# Altium schematic symbol library Schematic_Lib.SchLib: 31 symbols (part 1 of 2)
Pins are listed as number, name and electrical type; pins without a type are passive.

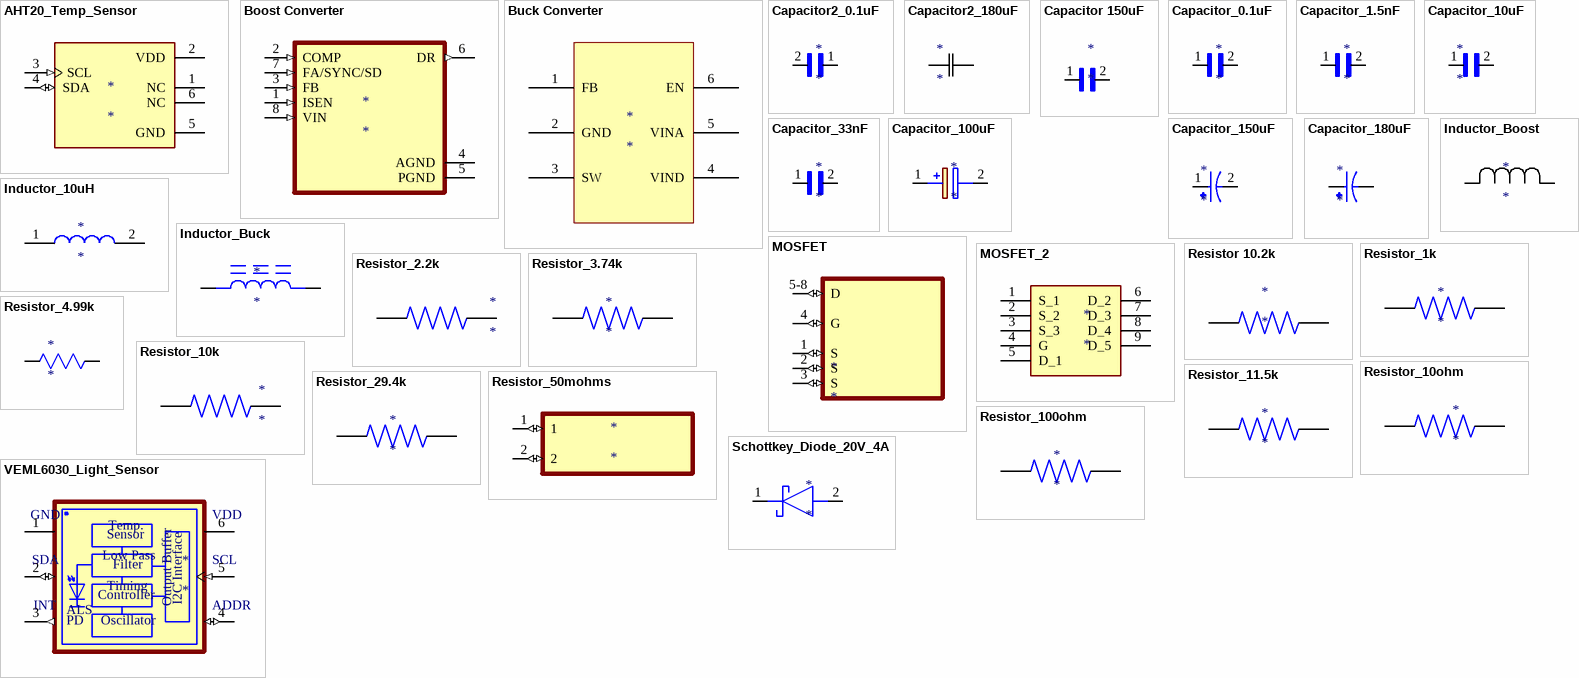
[diagram p0: symbols AHT20_Temp_Sensor to VEML6030_Light_Sensor]

## AHT20_Temp_Sensor
designator *
DHT20 - AHT20 Pin Module - I2C Temperature and Humidity Sensor; Manufacturer: Adafruit Industries; Manufacturer Part Number: 5183; Supplier 1: Digi-Key; Supplier Part Number 1: 1528-5183-ND; RoHS: No; Category: Uncategorized; Stock 1: 48; Pricing 1: 1=4.50000 (USD)
footprint DHT20_Tempsensor
pins: 1 NC, 2 VDD (power), 3 SCL (in), 4 SDA (io), 5 GND (power), 6 NC

## Boost Converter
designator *
2.97V to 40V Wide Vin Low-Side N-Channel Controller for Switching Regulators 8-VSSOP -40 to 125; Manufacturer: Adafruit Industries; Manufacturer Part Number: 385; Response Time: 2s; Accuracy: 2%; Sensor Type: Temperature; Output Type: Digital; Number of Outputs: 1; Output Voltage: 4.5V; Max Output Current: 1.5A; Min Input Voltage: 3V; Max Input Voltage: 5.5V; Efficiency: 93%; Switching Frequency: 1.6MHz; Min Output Voltage: 600mV; Synchronous Rectifier: No; Quiescent Current: 3.3mA; Output Configuration: Positive; Frequency: 400kHz; Max Duty Cycle: 100%; Topology: Boost,Flyback,SEPIC; Max Frequency: 1MHz; Supplier 1: Digi-Key; Supplier Part Number 1: 1528-1504-ND; RoHS: Yes; Category: Sensors; Pricing 1: 1=9.95000 (USD); Mount: Chassis Mount; Min Operating Temperature: -40°C; Max Operating Temperature: 125°C; Series: -; ComponentLink1URL: https://cdn-shop.adafruit.com/datasheets/DHT22.pdf?src-supplier=Digi-Key; ComponentLink1Description: https://cdn-shop.adafruit.com/datasheets/DHT22.pdf?src-supplier=Digi-Key; Supplier 2: Digi-Key; Supplier Part Number 2: 296-46437-1-ND; Stock 2: 275; Pricing 2: 1=1.57000, 10=1.40400, 25=1.33280, 100=1.09470, 250=1.02328, 500=0.90428 (USD); Number of Pins: 6; Output Current: 1.5A; Packaging: Tape and Reel; Package Quantity: 1000; Max Output Voltage: 4.5V; Radiation Hardening: No; REACH SVHC: No SVHC; Lead Free: Lead Free; RoHS Compliant: Yes; ComponentLink2URL: https://datasheet.ciiva.com/26101/lmr10515-26101766.pdf?src-supplier=Avnet+Europe; ComponentLink2Description: https://datasheet.ciiva.com/26101/lmr10515-26101766.pdf?src-supplier=Avnet+Europe; ComponentLink3URL: https://datasheet.ciiva.com/49118/1503733-49118349.pdf?src-supplier=Element14; ComponentLink3Description: https://datasheet.ciiva.com/49118/1503733-49118349.pdf?src-supplier=Element14; Supplier 3: Digi-Key; Supplier Part Number 3: LM3488MM/NOPBTR-ND; Pricing 3: 1000=1.79900 (USD); Case/Package: MSOP; Contact Plating: Tin,Matte; Min Supply Voltage: 2.97V; Max Supply Voltage: 40V; Termination: SMD/SMT; Duty Cycle: 100%; Length: 3mm; Width: 3mm; Height: 0.86mm; ComponentLink4URL: https://datasheet.ciiva.com/27056/2043442-27056447.pdf?src-supplier=Jameco; ComponentLink4Description: https://datasheet.ciiva.com/27056/2043442-27056447.pdf?src-supplier=Jameco; ComponentLink5URL: https://datasheet.ciiva.com/15112/getdatasheetpartid-121245-15112966.pdf?src-supplier=Verical; ComponentLink5Description: https://datasheet.ciiva.com/15112/getdatasheetpartid-121245-15112966.pdf?src-supplier=Verical; ComponentLink6URL: https://datasheet.ciiva.com/23917/78663-23917555.pdf?src-supplier=Newark; ComponentLink6Description: https://datasheet.ciiva.com/23917/78663-23917555.pdf?src-supplier=Newark; ComponentLink7URL: https://datasheet.ciiva.com/1556/1853552-1556523.pdf?src-supplier=Farnell; ComponentLink7Description: https://datasheet.ciiva.com/1556/1853552-1556523.pdf?src-supplier=Farnell; ComponentLink8URL: https://datasheet.ciiva.com/1556/1853552-1556524.pdf?src-supplier=Farnell; ComponentLink8Description: https://datasheet.ciiva.com/1556/1853552-1556524.pdf?src-supplier=Farnell; ComponentLink9URL: https://datasheet.ciiva.com/6598/lm3488-6598294.pdf?src-supplier=Digi-Key; ComponentLink9Description: https://datasheet.ciiva.com/6598/lm3488-6598294.pdf?src-supplier=Digi-Key; ComponentLink10URL: https://datasheet.ciiva.com/25902/lm3488-25902344.pdf?src-supplier=Avnet+Europe; ComponentLink10Description: https://datasheet.ciiva.com/25902/lm3488-25902344.pdf?src-supplier=Avnet+Europe; ComponentLink11URL: https://datasheet.ciiva.com/48513/lm3488-48513290.pdf?src-supplier=Avnet; ComponentLink11Description: https://datasheet.ciiva.com/48513/lm3488-48513290.pdf?src-supplier=Avnet; ComponentLink12URL: https://datasheet.ciiva.com/14150/lm3488-eng-tds-14150573.pdf?src-supplier=Distrelec; ComponentLink12Description: https://datasheet.ciiva.com/14150/lm3488-eng-tds-14150573.pdf?src-supplier=Distrelec; ComponentLink13URL: https://datasheet.ciiva.com/46382/1882647-46382186.pdf?src-supplier=Element14; ComponentLink13Description: https://datasheet.ciiva.com/46382/1882647-46382186.pdf?src-supplier=Element14; ComponentLink14URL: https://datasheet.ciiva.com/7632/78663-7632278.pdf?src-supplier=Element14; ComponentLink14Description: https://datasheet.ciiva.com/7632/78663-7632278.pdf?src-supplier=Element14
footprint Boost_Converter_Footprint
pins: 1 ISEN (in), 2 COMP (in), 3 FB (in), 4 AGND (power), 5 PGND (power), 6 DR (out), 7 FA/SYNC/SD (in), 8 VIN (in)

## Buck Converter
designator *
5.5Vin, 1.5A Step-Down Voltage Regulator in SOT-23 and LLP 6-WSON -40 to 125; Manufacturer: Adafruit Industries; Manufacturer Part Number: 385; Response Time: 2s; Accuracy: 2%; Sensor Type: Temperature; Output Type: Digital; Number of Outputs: 1; Output Voltage: 4.5V; Min Input Voltage: 3V; Max Input Voltage: 5.5V; Efficiency: 93%; Switching Frequency: 1.6MHz; Min Output Voltage: 600mV; Synchronous Rectifier: No; Quiescent Current: 3.3mA; Output Configuration: Positive; Supplier 1: Digi-Key; Supplier Part Number 1: 1528-1504-ND; RoHS: Yes; Category: Sensors; Pricing 1: 1=9.95000 (USD); Mount: Chassis Mount; Min Operating Temperature: -40°C; Max Operating Temperature: 125°C; Series: -; ComponentLink1URL: https://cdn-shop.adafruit.com/datasheets/DHT22.pdf?src-supplier=Digi-Key; ComponentLink1Description: https://cdn-shop.adafruit.com/datasheets/DHT22.pdf?src-supplier=Digi-Key; Supplier 2: Digi-Key; Supplier Part Number 2: 296-46437-1-ND; Stock 2: 275; Pricing 2: 1=1.57000, 10=1.40400, 25=1.33280, 100=1.09470, 250=1.02328, 500=0.90428 (USD); Number of Pins: 6; Max Output Current: 1.5A; Output Current: 1.5A; Packaging: Tape and Reel; Package Quantity: 1000; Max Output Voltage: 4.5V; Radiation Hardening: No; REACH SVHC: No SVHC; Lead Free: Lead Free; RoHS Compliant: Yes; ComponentLink2URL: https://datasheet.ciiva.com/26101/lmr10515-26101766.pdf?src-supplier=Avnet+Europe; ComponentLink2Description: https://datasheet.ciiva.com/26101/lmr10515-26101766.pdf?src-supplier=Avnet+Europe; ComponentLink3URL: https://datasheet.ciiva.com/49118/1503733-49118349.pdf?src-supplier=Element14; ComponentLink3Description: https://datasheet.ciiva.com/49118/1503733-49118349.pdf?src-supplier=Element14
footprint Buck_Converter_Footprint
pins: 1 FB, 2 GND, 3 SW, 4 VIND, 5 VINA, 6 EN

## Capacitor2_0.1uF
designator *
Cap Ceramic 0.1uF 16V X5R 10% SMD 0402 85°C Paper T/R; Manufacturer: KEMET; Manufacturer Part Number: C0402C104K4PACTU; Capacitance: 100nF; Dissipation Factor: 5%; Supplier 1: Digi-Key; Supplier Part Number 1: 399-C0402C104K4PAC7867TR-ND; RoHS: Yes; Category: Ceramic Capacitors; Stock 1: 2168149; Pricing 1: 10000=0.00873, 20000=0.00832 (USD); Mount: Surface Mount; Case/Package: 0402; Case Code (Metric): 1005; Case Code (Imperial): 0402; Contact Plating: Tin,Matte; Dielectric Material: Ceramic; Min Operating Temperature: -55°C; Max Operating Temperature: 85°C; Tolerance: 10%; Packaging: Tape and Reel; Voltage Rating: 16V; Package Quantity: 1; Voltage Rating (DC): 16V; Dielectric: X5R; Termination: SMD/SMT; Series: C; Construction: Flat; Length: 1mm; Width: 0.02inch; Height: 0.5mm; Thickness: 0.022inch; Depth: 0.5mm; Radiation Hardening: No; REACH SVHC: No SVHC; Lead Free: Lead Free; RoHS Compliant: Yes; ComponentLink1URL: https://datasheet.ciiva.com/26938/getdatasheetpartid-161478-26938210.pdf?src-supplier=Verical; ComponentLink1Description: https://datasheet.ciiva.com/26938/getdatasheetpartid-161478-26938210.pdf?src-supplier=Verical
footprint Capacitor2_0.1uF
pins: 1, 2

## Capacitor2_180uF
designator *
Cap Aluminum Polymer 180uF 16VDC 20%( 10 X 7.7mm) SMD 0.035 Ohm 930mA 1000h 125C T/R; Manufacturer: United Chemi-Con; Manufacturer Part Number: APXH160ARA181MJ80G; Voltage Rating: 16V; Ripple Current: 3.02A; ESR (Equivalent Series Resistance): 35mR; Polarity: Polar; Life (Hours): 1000Hour; Supplier 1: Digi-Key; Supplier Part Number 1: 565-3145-1-ND; RoHS: Yes; Category: Polymer Capacitors; Stock 1: 514; Pricing 1: 1=3.32000, 10=2.68800, 50=2.34600, 100=2.05280 (USD); Mount: Surface Mount; Case/Package: Radial; Min Operating Temperature: -55°C; Max Operating Temperature: 125°C; Package Quantity: 1; Capacitance: 180uF; Tolerance: 20%; Packaging: Tape and Reel; Voltage Rating (DC): 16V; Termination: SMD/SMT; Series: NPCAP™-PXH; Construction: Cylindrical; Diameter: 10mm; Length: 11mm; Width: 10.3mm; Height: 7.7mm; Height - Seated (Max): 0.303inch; Lead Free: Lead Free; RoHS Compliant: Yes; ComponentLink1URL: https://datasheet.ciiva.com/15923/383cat-db-al-cgieejppdfnamepxh-cgieejppdfnamepxh-15923818.pdf?src-supplier=Onlinecomponents.com; ComponentLink1Description: https://datasheet.ciiva.com/15923/383cat-db-al-cgieejppdfnamepxh-cgieejppdfnamepxh-15923818.pdf?src-supplier=Onlinecomponents.com
footprint Capacitor2_180uF
pins: 1, 2

## Capacitor 150uF
designator *
Multilayer Ceramic Capacitor 150uF 4V 20% 1210 Emboss T/R; Manufacturer: Taiyo Yuden; Manufacturer Part Number: AMK325ABJ157MM-P; Supplier 1: Digi-Key; Supplier Part Number 1: 587-AMK325ABJ157MM-PCT-ND; RoHS: Yes; Category: Ceramic Capacitors; Stock 1: 2200; Pricing 1: 1=3.41000, 10=2.75600, 50=2.40540, 100=2.10470, 500=1.60356 (USD); RoHS Compliant: Yes
footprint Capacitor_150uF
pins: 1, 2

## Capacitor_0.1uF
designator *
Cap Ceramic 0.1uF 25V X7R 5% SMD 0805 FlexiTerm 125°C Paper T/R; Manufacturer: Kyocera AVX; Manufacturer Part Number: 08053C104JAZ2A; Capacitance: 100nF; Supplier 1: Digi-Key; Supplier Part Number 1: 478-11877-1-ND; RoHS: Yes; Category: Ceramic Capacitors; Stock 1: 3816; Pricing 1: 1=0.37000, 10=0.25400, 50=0.17780, 100=0.15250, 500=0.11434, 1000=0.09656 (USD); Mount: Surface Mount; Case/Package: 0805; Number of Pins: 2; Case Code (Imperial): 0805; Case Code (Metric): 2012; Min Operating Temperature: -55°C; Max Operating Temperature: 125°C; Package Quantity: 4000; Voltage Rating: 25V; Voltage Rating (DC): 25V; Tolerance: 5%; Packaging: Tape and Reel; Dielectric: X7R; Termination: SMD/SMT; Features: Soft Termination; Series: FLEXITERM®; Construction: Flat; Length: 2.01mm; Width: 1.25mm; Height: 0.94mm; Thickness: 0.037inch; Depth: 1.25mm; RoHS Compliant: Yes; ComponentLink1URL: https://datasheet.ciiva.com/208/flexiterm-208638.pdf?src-supplier=Digi-Key; ComponentLink1Description: https://datasheet.ciiva.com/208/flexiterm-208638.pdf?src-supplier=Digi-Key; ComponentLink2URL: https://datasheet.ciiva.com/11504/flexiterm-11504238.pdf?src-supplier=Avnet; ComponentLink2Description: https://datasheet.ciiva.com/11504/flexiterm-11504238.pdf?src-supplier=Avnet; ComponentLink3URL: https://datasheet.ciiva.com/5423/cx7r-218113-5423549.pdf?src-supplier=Mouser; ComponentLink3Description: https://datasheet.ciiva.com/5423/cx7r-218113-5423549.pdf?src-supplier=Mouser
footprint Capacitor_0.1uF
pins: 1, 2

## Capacitor_1.5nF
designator *
1.5 nF ±5% 50V Ceramic Capacitor C0G, NP0 0805 (2012 Metric); Manufacturer: TDK; Manufacturer Part Number: C2012C0G1H152J060AA; Capacitance: 1.5nF; Temperature Coefficient: 30ppm/°C; Supplier 1: Digi-Key; Supplier Part Number 1: 445-1331-1-ND; RoHS: Yes; Category: Ceramic Capacitors; Stock 1: 47415; Pricing 1: 1=0.19000, 10=0.13300, 50=0.07560, 100=0.06270, 500=0.04396, 1000=0.03639 (USD); Mount: Surface Mount; Case/Package: 0805; Case Code (Metric): 2012; Case Code (Imperial): 0805; Dielectric Material: Ceramic; Weight: 0.000194oz; Min Operating Temperature: -55°C; Max Operating Temperature: 125°C; Tolerance: 5%; Dielectric: C0G; Packaging: Tape and Reel; Voltage Rating: 50V; Voltage Rating (DC): 50V; Package Quantity: 1; Termination: SMD/SMT; Series: C; Construction: Flat; Voltage: 50V; Length: 2mm; Width: 0.049inch; Height: 0.6mm; Depth: 1.25mm; Thickness: 0.028inch; Radiation Hardening: No; REACH SVHC: No SVHC; Lead Free: Lead Free; RoHS Compliant: Yes; ComponentLink1URL: https://datasheet.ciiva.com/24217/c2012c0g1h152j060aa-264944-24217755.pdf?src-supplier=Mouser; ComponentLink1Description: https://datasheet.ciiva.com/24217/c2012c0g1h152j060aa-264944-24217755.pdf?src-supplier=Mouser; ComponentLink2URL: https://datasheet.ciiva.com/11788/0900766b80c1bb00-11788088.pdf?src-supplier=RSComponents; ComponentLink2Description: https://datasheet.ciiva.com/11788/0900766b80c1bb00-11788088.pdf?src-supplier=RSComponents; ComponentLink3URL: https://datasheet.ciiva.com/7151/1744655-7151856.pdf?src-supplier=Newark; ComponentLink3Description: https://datasheet.ciiva.com/7151/1744655-7151856.pdf?src-supplier=Newark; ComponentLink4URL: https://datasheet.ciiva.com/6250/tdkmlcccaprange-6250967.pdf?src-supplier=Digi-Key; ComponentLink4Description: https://datasheet.ciiva.com/6250/tdkmlcccaprange-6250967.pdf?src-supplier=Digi-Key; ComponentLink5URL: https://datasheet.ciiva.com/6250/tdkmlcccaprange-6250959.pdf?src-supplier=Digi-Key; ComponentLink5Description: https://datasheet.ciiva.com/6250/tdkmlcccaprange-6250959.pdf?src-supplier=Digi-Key; ComponentLink6URL: https://datasheet.ciiva.com/49048/1571323-49048791.pdf?src-supplier=Element14; ComponentLink6Description: https://datasheet.ciiva.com/49048/1571323-49048791.pdf?src-supplier=Element14; ComponentLink7URL: https://datasheet.ciiva.com/16498/e412-c-16498790.pdf?src-supplier=Future+Electronics; ComponentLink7Description: https://datasheet.ciiva.com/16498/e412-c-16498790.pdf?src-supplier=Future+Electronics; ComponentLink8URL: https://datasheet.ciiva.com/17487/e412-c-17487399.pdf?src-supplier=Avnet+Europe; ComponentLink8Description: https://datasheet.ciiva.com/17487/e412-c-17487399.pdf?src-supplier=Avnet+Europe
footprint Capacitor_1.5nF
pins: 1, 2

## Capacitor_10uF
designator *
0805 35 V 10 uF ±10% Tolerance X5R Multilayer Ceramic Capacitor; Manufacturer: Murata; Manufacturer Part Number: GRM21BR6YA106KE43L; Capacitance: 10uF; Voltage Rating: 35V; Supplier 1: Digi-Key; Supplier Part Number 1: 490-10514-2-ND; RoHS: Yes; Category: Ceramic Capacitors; Stock 1: 59351; Pricing 1: 3000=0.12929, 6000=0.12211 (USD); Mount: Surface Mount; Case/Package: 0805; Case Code (Metric): 2012; Case Code (Imperial): 0805; Weight: 0.000335oz; Min Operating Temperature: -55°C; Max Operating Temperature: 85°C; Packaging: Tape and Reel; Dielectric: X5R; Tolerance: 10%; Termination: SMD/SMT; Voltage Rating (DC): 35V; Package Quantity: 3000; Length: 0.079inch; Width: 0.049inch; Height: 1.25mm; Thickness: 0.057inch; REACH SVHC: No SVHC; Lead Free: Lead Free; RoHS Compliant: Yes; ComponentLink1URL: http://www.farnell.com/datasheets/2079187.pdf?src-supplier=Farnell; ComponentLink1Description: http://www.farnell.com/datasheets/2079187.pdf?src-supplier=Farnell; ComponentLink2URL: http://www.mouser.com/ds/2/281/c02e-2905.pdf?src-supplier=Mouser; ComponentLink2Description: http://www.mouser.com/ds/2/281/c02e-2905.pdf?src-supplier=Mouser; ComponentLink3URL: http://www.farnell.com/datasheets/2079187.pdf?src-supplier=Element14; ComponentLink3Description: http://www.farnell.com/datasheets/2079187.pdf?src-supplier=Element14; ComponentLink4URL: http://search.murata.co.jp/Ceramy/image/img/A01X/G101/ENG/GRM21BR6YA106KE43-01.pdf?src-supplier=Digi-Key; ComponentLink4Description: http://search.murata.co.jp/Ceramy/image/img/A01X/G101/ENG/GRM21BR6YA106KE43-01.pdf?src-supplier=Digi-Key; ComponentLink5URL: http://search.murata.co.jp/Ceramy/image/img/A01X/partnumbering_e_01.pdf?src-supplier=Digi-Key; ComponentLink5Description: http://search.murata.co.jp/Ceramy/image/img/A01X/partnumbering_e_01.pdf?src-supplier=Digi-Key; ComponentLink6URL: http://www.farnell.com/datasheets/2079187.pdf?src-supplier=Newark; ComponentLink6Description: http://www.farnell.com/datasheets/2079187.pdf?src-supplier=Newark
footprint Capacitor_10uF
pins: 1, 2

## Capacitor_33nF
designator *
TDK - CGA4J2C0G1H333J125AA. - CAP 0.033UF 50V C0G +/-5% SMD 0805; Capacitance: 33nF; Tolerance: 5%; Supplier 1: Digi-Key; Supplier Part Number 1: 445-6950-1-ND; Manufacturer: TDK; Manufacturer Part Number: CGA4J2C0G1H333J125AA; RoHS: Yes; Category: Ceramic Capacitors; Stock 1: 171034; Pricing 1: 1=0.36000, 10=0.24800, 50=0.17320, 100=0.14850, 500=0.11138, 1000=0.09405 (USD); Mount: Surface Mount; Case/Package: 0805; Case Code (Metric): 2012; Case Code (Imperial): 0805; Weight: 0.000194oz; Min Operating Temperature: -55°C; Max Operating Temperature: 125°C; Voltage Rating: 50V; Packaging: Tape and Reel; Voltage Rating (DC): 50V; Dielectric: C0G; Termination: SMD/SMT; Series: CGA; Package Quantity: 1; Resistor Type: Ceramic; Length: 2mm; Width: 0.049inch; Height: 1.25mm; Thickness: 0.057inch; Depth: 1.25mm; Ratings: AEC-Q200; Lead Free: Lead Free; REACH SVHC: No SVHC; RoHS Compliant: Yes; ComponentLink1URL: https://datasheet.ciiva.com/24217/cga4j2c0g1h333j125aa-265991-24217624.pdf?src-supplier=Mouser; ComponentLink1Description: https://datasheet.ciiva.com/24217/cga4j2c0g1h333j125aa-265991-24217624.pdf?src-supplier=Mouser; ComponentLink2URL: https://datasheet.ciiva.com/22704/1807242-22704638.pdf?src-supplier=Element14; ComponentLink2Description: https://datasheet.ciiva.com/22704/1807242-22704638.pdf?src-supplier=Element14
footprint Capacitor_33nF
pins: 1, 2

## Capacitor_100uF
designator *
Cap Tant Solid 100uF 10V D CASE 20% (7.3 X 4.3 X 2.8mm) Inward L SMD 7343-31 0.1 Ohm 125C T/R; Manufacturer: Vishay Sprague; Manufacturer Part Number: 593D107X0010D2TE3; ESR (Equivalent Series Resistance): 100mR; Ripple Current: 740mA; Leakage Current: 10uA; Polarity: Polar; Dissipation Factor: 6%; Supplier 1: Digi-Key; Supplier Part Number 1: 718-1100-1-ND; RoHS: Yes; Category: Tantalum Capacitors; Stock 1: 108; Pricing 1: 1=0.90000, 10=0.68800, 50=0.57140, 100=0.49200 (USD); Mount: Surface Mount,PCB; Case/Package: 2917; Number of Pins: 2; Case Code (Metric): 7343; Case Code (Imperial): 2917; Weight: 0.023634oz; Min Operating Temperature: -55°C; Max Operating Temperature: 125°C; Capacitance: 100uF; Tolerance: 20%; Voltage Rating: 10V; Package Quantity: 1; Packaging: Tape and Reel; Voltage Rating (DC): 10V; Termination: SMD/SMT; Voltage: 10V; Features: General Purpose; Series: TANTAMOUNT® 593D; Construction: Flat; Length: 7.3mm; Width: 0.169inch; Height: 3.1mm; Depth: 4.3mm; Height - Seated (Max): 0.122inch; Radiation Hardening: No; REACH SVHC: Unknown; Lead Free: Lead Free; RoHS Compliant: Yes; ComponentLink1URL: https://datasheet.ciiva.com/1463/1598570-1463805.pdf?src-supplier=Element14; ComponentLink1Description: https://datasheet.ciiva.com/1463/1598570-1463805.pdf?src-supplier=Element14; ComponentLink2URL: https://datasheet.ciiva.com/260/593d-260241.pdf?src-supplier=Digi-Key; ComponentLink2Description: https://datasheet.ciiva.com/260/593d-260241.pdf?src-supplier=Digi-Key; ComponentLink3URL: https://datasheet.ciiva.com/260/593d-260242.pdf?src-supplier=Digi-Key; ComponentLink3Description: https://datasheet.ciiva.com/260/593d-260242.pdf?src-supplier=Digi-Key; ComponentLink4URL: https://datasheet.ciiva.com/260/593d-260243.pdf?src-supplier=Digi-Key; ComponentLink4Description: https://datasheet.ciiva.com/260/593d-260243.pdf?src-supplier=Digi-Key; ComponentLink5URL: https://datasheet.ciiva.com/3004/593d-3004057.pdf?src-supplier=Avnet; ComponentLink5Description: https://datasheet.ciiva.com/3004/593d-3004057.pdf?src-supplier=Avnet; ComponentLink6URL: https://datasheet.ciiva.com/12882/593d-239975-12882744.pdf?src-supplier=Mouser; ComponentLink6Description: https://datasheet.ciiva.com/12882/593d-239975-12882744.pdf?src-supplier=Mouser; ComponentLink7URL: https://datasheet.ciiva.com/22644/593d-22644537.pdf?src-supplier=Element14; ComponentLink7Description: https://datasheet.ciiva.com/22644/593d-22644537.pdf?src-supplier=Element14; ComponentLink8URL: https://datasheet.ciiva.com/46382/1910926-46382106.pdf?src-supplier=Element14; ComponentLink8Description: https://datasheet.ciiva.com/46382/1910926-46382106.pdf?src-supplier=Element14; ComponentLink9URL: https://datasheet.ciiva.com/15163/getdatasheetpartid-88232-15163238.pdf?src-supplier=Verical; ComponentLink9Description: https://datasheet.ciiva.com/15163/getdatasheetpartid-88232-15163238.pdf?src-supplier=Verical; ComponentLink10URL: https://datasheet.ciiva.com/16632/593d-16632317.pdf?src-supplier=Avnet+Europe; ComponentLink10Description: https://datasheet.ciiva.com/16632/593d-16632317.pdf?src-supplier=Avnet+Europe
footprint Capacitor_100uF
pins: 1 +, 2 -

## Capacitor_150uF
designator *
150uF SMD Solid Polymer Tantalum Capacitor; 6.3 V dc +/-20%; POSCAP Series; Manufacturer: Panasonic; Manufacturer Part Number: 6TPE150MAPB; Voltage Rating: 6.3V; ESR (Equivalent Series Resistance): 25mR; Tolerance: 20%; Ripple Current: 1.6A; Leakage Current: 94.5uA; Polarity: Polar; Dissipation Factor: 8%; Supplier 1: Digi-Key; Supplier Part Number 1: P16208CT-ND; RoHS: Yes; Category: Tantalum Capacitors; Stock 1: 614; Pricing 1: 1=1.62000, 10=1.28200, 50=1.11160, 100=0.96190, 500=0.72676, 1000=0.64125 (USD); Mount: Surface Mount; Case/Package: Molded; Number of Pins: 2; Case Code (Imperial): 1210; Case Code (Metric): 3528; Min Operating Temperature: -55°C; Max Operating Temperature: 105°C; Capacitance: 150uF; Packaging: Tape and Reel; Voltage Rating (DC): 6.3V; Package Quantity: 2000; Termination: SMD/SMT; Voltage: 6.3V; Features: General Purpose; Length: 3.5mm; Width: 2.8mm; Height: 1.9mm; Height - Seated (Max): 0.079inch; Depth: 2.8mm; Radiation Hardening: No; REACH SVHC: No SVHC; Lead Free: Lead Free; RoHS Compliant: Yes; ComponentLink1URL: https://datasheet.ciiva.com/25785/1734363-25785913.pdf?src-supplier=Farnell; ComponentLink1Description: https://datasheet.ciiva.com/25785/1734363-25785913.pdf?src-supplier=Farnell; ComponentLink2URL: https://datasheet.ciiva.com/22745/1734363-22745339.pdf?src-supplier=Element14; ComponentLink2Description: https://datasheet.ciiva.com/22745/1734363-22745339.pdf?src-supplier=Element14; ComponentLink3URL: https://datasheet.ciiva.com/48675/aaa8000ce5-48675094.pdf?src-supplier=Avnet; ComponentLink3Description: https://datasheet.ciiva.com/48675/aaa8000ce5-48675094.pdf?src-supplier=Avnet
footprint Capacitor_150uF
pins: 1, 2

## Capacitor_180uF
designator *
Cap Aluminum Polymer 180uF 16VDC 20%( 6.3 X 5.9mm) SMD 0.022 Ohm 3300mA 5000h 105C T/R; Manufacturer: Panasonic; Manufacturer Part Number: 20SVPF180M; Ripple Current: 3.2A; Voltage Rating: 20V; ESR (Equivalent Series Resistance): 25mR; Polarity: Polar; Leakage Current: 720uA; Life (Hours): 5000Hour; Dissipation Factor: 12%; Supplier 1: Digi-Key; Supplier Part Number 1: P16499CT-ND; RoHS: Yes; Category: Aluminum Electrolytic Capacitors; Pricing 1: 1=1.64000, 10=1.29500, 50=1.12220, 100=0.97120, 500=0.73376 (USD); Mount: Surface Mount; Case/Package: Radial; Number of Pins: 7; Min Operating Temperature: -55°C; Max Operating Temperature: 105°C; Capacitance: 180uF; Tolerance: 20%; Ripple Current (AC): 3.2A; Packaging: Tape and Reel; Voltage Rating (DC): 20V; Package Quantity: 1000; Termination: SMD/SMT; Voltage: 20V; Diameter: 8mm; Length: 6.9mm; Height: 6.9mm; Height - Seated (Max): 0.276inch; REACH SVHC: No SVHC; Lead Free: Lead Free; RoHS Compliant: Yes; ComponentLink1URL: https://datasheet.ciiva.com/24071/svpf-os-262415-24071279.pdf?src-supplier=Mouser; ComponentLink1Description: https://datasheet.ciiva.com/24071/svpf-os-262415-24071279.pdf?src-supplier=Mouser; ComponentLink2URL: https://datasheet.ciiva.com/22746/1734360-22746207.pdf?src-supplier=Element14; ComponentLink2Description: https://datasheet.ciiva.com/22746/1734360-22746207.pdf?src-supplier=Element14; ComponentLink3URL: https://datasheet.ciiva.com/24416/svpf-series-datasheet-24416538.pdf?src-supplier=Onlinecomponents.com; ComponentLink3Description: https://datasheet.ciiva.com/24416/svpf-series-datasheet-24416538.pdf?src-supplier=Onlinecomponents.com; Supplier 2: Digi-Key; Supplier Part Number 2: P16479TR-ND; Stock 2: 803; Pricing 2: 1000=0.55519 (USD); Radiation Hardening: No; ComponentLink4URL: https://datasheet.ciiva.com/48542/svpf-eng-ds-48542366.pdf?src-supplier=Distrelec; ComponentLink4Description: https://datasheet.ciiva.com/48542/svpf-eng-ds-48542366.pdf?src-supplier=Distrelec; ComponentLink5URL: https://datasheet.ciiva.com/22746/1734360-22746190.pdf?src-supplier=Element14; ComponentLink5Description: https://datasheet.ciiva.com/22746/1734360-22746190.pdf?src-supplier=Element14; ComponentLink6URL: https://datasheet.ciiva.com/25740/1734360-25740895.pdf?src-supplier=Farnell; ComponentLink6Description: https://datasheet.ciiva.com/25740/1734360-25740895.pdf?src-supplier=Farnell; ComponentLink7URL: https://datasheet.ciiva.com/24023/svpf-os-262415-24023114.pdf?src-supplier=Mouser; ComponentLink7Description: https://datasheet.ciiva.com/24023/svpf-os-262415-24023114.pdf?src-supplier=Mouser; ComponentLink8URL: https://datasheet.ciiva.com/24322/svpf-series-datasheet-24322742.pdf?src-supplier=Onlinecomponents.com; ComponentLink8Description: https://datasheet.ciiva.com/24322/svpf-series-datasheet-24322742.pdf?src-supplier=Onlinecomponents.com
footprint Capacitor_180uF
pins: 1, 2

## Inductor_10uH
designator *
Inductor Power Semi-Shielded Wirewound 10uH 20% 100KHz 17Q-Factor Ferrite 2.5A 58.6mOhm DCR T/R; Manufacturer: Bourns; Manufacturer Part Number: SRN6045-100M; DC Resistance (DCR): 58.6mR; Saturation Current: 3A; Self Resonant Frequency: 15MHz; Supplier 1: Digi-Key; Supplier Part Number 1: SRN6045-100MCT-ND; RoHS: Yes; Category: Fixed Inductors; Stock 1: 1938; Pricing 1: 1=0.62000, 10=0.54400, 25=0.50520, 50=0.42740, 100=0.38860, 250=0.36528, 500=0.32640 (USD); Mount: Surface Mount; Case/Package: Nonstandard; Number of Pins: 2; Core Material: Ferrite; Material: Steel; Weight: 0.027725oz; Min Operating Temperature: -40°C; Max Operating Temperature: 125°C; Tolerance: 20%; Inductance: 10uH; Max DC Current: 2.5A; Package Quantity: 1; Current Rating: 2.5A; Shielding: Shielded; Packaging: Tape and Reel; Inductance Tolerance: 20%; Resistor Type: Wirewound; Test Frequency: 100kHz; Termination: SMD/SMT; RMS Current (Irms): 2.5A; DC Current: 2.5A; Series: SRN6045; Sample Rate (Hz): 100kHz; Length: 6mm; Width: 6mm; Height: 4.5mm; Height - Seated (Max): 0.177inch; Depth: 6.2mm; REACH SVHC: No SVHC; Military Standard: Not; RoHS Compliant: Yes; ComponentLink1URL: https://datasheet.ciiva.com/11802/0900766b80fe1f3e-11802575.pdf?src-supplier=RSComponents; ComponentLink1Description: https://datasheet.ciiva.com/11802/0900766b80fe1f3e-11802575.pdf?src-supplier=RSComponents; ComponentLink2URL: https://datasheet.ciiva.com/6689/srn6045-6689370.pdf?src-supplier=Digi-Key; ComponentLink2Description: https://datasheet.ciiva.com/6689/srn6045-6689370.pdf?src-supplier=Digi-Key; ComponentLink3URL: https://datasheet.ciiva.com/6689/srn6045-6689372.pdf?src-supplier=Digi-Key; ComponentLink3Description: https://datasheet.ciiva.com/6689/srn6045-6689372.pdf?src-supplier=Digi-Key; ComponentLink4URL: https://datasheet.ciiva.com/6689/srn6045-6689374.pdf?src-supplier=Digi-Key; ComponentLink4Description: https://datasheet.ciiva.com/6689/srn6045-6689374.pdf?src-supplier=Digi-Key; ComponentLink5URL: https://datasheet.ciiva.com/8512/srn6045-8512981.pdf?src-supplier=Avnet; ComponentLink5Description: https://datasheet.ciiva.com/8512/srn6045-8512981.pdf?src-supplier=Avnet; ComponentLink6URL: https://datasheet.ciiva.com/7849/1875285-7849518.pdf?src-supplier=Element14; ComponentLink6Description: https://datasheet.ciiva.com/7849/1875285-7849518.pdf?src-supplier=Element14; ComponentLink7URL: https://datasheet.ciiva.com/17113/70231653-17113272.pdf?src-supplier=Allied+Electronics; ComponentLink7Description: https://datasheet.ciiva.com/17113/70231653-17113272.pdf?src-supplier=Allied+Electronics; ComponentLink8URL: https://datasheet.ciiva.com/28561/1875285-28561101.pdf?src-supplier=Element14; ComponentLink8Description: https://datasheet.ciiva.com/28561/1875285-28561101.pdf?src-supplier=Element14; ComponentLink9URL: https://datasheet.ciiva.com/17284/srn6045-17284746.pdf?src-supplier=Avnet+Europe; ComponentLink9Description: https://datasheet.ciiva.com/17284/srn6045-17284746.pdf?src-supplier=Avnet+Europe; ComponentLink10URL: https://datasheet.ciiva.com/48691/001056442-da-01-en-mag-abg-leist-ind-srn6045-100m-10uh-smd-48691818.pdf?src-supplier=Conrad; ComponentLink10Description: https://datasheet.ciiva.com/48691/001056442-da-01-en-mag-abg-leist-ind-srn6045-100m-10uh-smd-48691818.pdf?src-supplier=Conrad
footprint Inductor_10uH
pins: 1, 2

## Inductor_Boost
designator *
Ind Power Wirewound 4.7uH 20% 100KHz 25Q-Factor Ferrite 7A T/R; Manufacturer: Bourns; Manufacturer Part Number: SDR1307-4R7ML; Saturation Current: 13A; Shielding: Unshielded; Self Resonant Frequency: 36MHz; Q Factor: 25; DC Resistance (DCR): 10mR; Supplier 1: Digi-Key; Supplier Part Number 1: SDR1307-4R7MLTR-ND; RoHS: Yes; Category: Fixed Inductors; Pricing 1: 400=0.68375 (USD); Mount: Surface Mount; Case/Package: Nonstandard; Core Material: Ferrite; Min Operating Temperature: -40°C; Max Operating Temperature: 125°C; Package Quantity: 400; Current Rating: 7A; Tolerance: 20%; Packaging: Tape and Reel; Inductance Tolerance: 20%; Resistor Type: Wirewound; Inductance: 4.7uH; Test Frequency: 100kHz; Max DC Current: 7A; Termination: SMD/SMT; DC Current: 7A; RMS Current (Irms): 7A; Series: SDR1307; Diameter: 13mm; Length: 0.512inch; Width: 0.512inch; Height: 7mm; Height - Seated (Max): 0.288inch; Radiation Hardening: No; REACH SVHC: No SVHC; Military Standard: Not; RoHS Compliant: Yes; ComponentLink1URL: https://datasheet.ciiva.com/1072/sdr1307-1072161.pdf?src-supplier=Digi-Key; ComponentLink1Description: https://datasheet.ciiva.com/1072/sdr1307-1072161.pdf?src-supplier=Digi-Key; ComponentLink2URL: https://datasheet.ciiva.com/1072/sdr1307-1072162.pdf?src-supplier=Digi-Key; ComponentLink2Description: https://datasheet.ciiva.com/1072/sdr1307-1072162.pdf?src-supplier=Digi-Key; ComponentLink3URL: https://datasheet.ciiva.com/1072/sdr1307-1072163.pdf?src-supplier=Digi-Key; ComponentLink3Description: https://datasheet.ciiva.com/1072/sdr1307-1072163.pdf?src-supplier=Digi-Key; ComponentLink4URL: https://datasheet.ciiva.com/17286/sdr1307-17286287.pdf?src-supplier=Avnet+Europe; ComponentLink4Description: https://datasheet.ciiva.com/17286/sdr1307-17286287.pdf?src-supplier=Avnet+Europe; ComponentLink5URL: https://datasheet.ciiva.com/22715/1723200-22715562.pdf?src-supplier=Element14; ComponentLink5Description: https://datasheet.ciiva.com/22715/1723200-22715562.pdf?src-supplier=Element14
footprint Inductor_Boost_Footprint
pins: 1, 2

## Inductor_Buck
designator *
Inductor Power Wirewound 2.7uH 20% 1KHz 28Q-Factor Ferrite 2.43A 52mOhm DCR T/R; Manufacturer: Bourns; Manufacturer Part Number: SDR0403-2R7ML; Q Factor: 28; Saturation Current: 3.5A; Shielding: Unshielded; Self Resonant Frequency: 75MHz; Resistance: 52MR; Supplier 1: Digi-Key; Supplier Part Number 1: SDR0403-2R7MLTR-ND; RoHS: Yes; Category: Fixed Inductors; Pricing 1: 2000=0.27676 (USD); Mount: Surface Mount; Case/Package: Nonstandard; Core Material: Ferrite; Min Operating Temperature: -40°C; Max Operating Temperature: 125°C; Inductance Tolerance: 20%; Package Quantity: 2000; Current Rating: 2.43A; Tolerance: 20%; Packaging: Tape and Reel; Resistor Type: Wirewound; Inductance: 2.7uH; DC Resistance (DCR): 52mR; Test Frequency: 1kHz; Max DC Current: 2.43A; Termination: SMD/SMT; DC Current: 2.43A; RMS Current (Irms): 2.43A; Series: SDR0403; Sample Rate (Hz): 1kHz; Length: 4.5mm; Width: 0.157inch; Height: 3.5mm; Height - Seated (Max): 0.126inch; Depth: 4.3mm; Radiation Hardening: No; REACH SVHC: No SVHC; Military Standard: Not; RoHS Compliant: Yes; ComponentLink1URL: https://datasheet.ciiva.com/1069/sdr0403-1069825.pdf?src-supplier=Digi-Key; ComponentLink1Description: https://datasheet.ciiva.com/1069/sdr0403-1069825.pdf?src-supplier=Digi-Key; ComponentLink2URL: https://datasheet.ciiva.com/1069/sdr0403-1069826.pdf?src-supplier=Digi-Key; ComponentLink2Description: https://datasheet.ciiva.com/1069/sdr0403-1069826.pdf?src-supplier=Digi-Key; ComponentLink3URL: https://datasheet.ciiva.com/1069/sdr0403-1069827.pdf?src-supplier=Digi-Key; ComponentLink3Description: https://datasheet.ciiva.com/1069/sdr0403-1069827.pdf?src-supplier=Digi-Key; ComponentLink4URL: https://datasheet.ciiva.com/8516/sdr0403-8516122.pdf?src-supplier=Avnet; ComponentLink4Description: https://datasheet.ciiva.com/8516/sdr0403-8516122.pdf?src-supplier=Avnet; ComponentLink5URL: https://datasheet.ciiva.com/17286/sdr0403-17286485.pdf?src-supplier=Avnet+Europe; ComponentLink5Description: https://datasheet.ciiva.com/17286/sdr0403-17286485.pdf?src-supplier=Avnet+Europe; ComponentLink6URL: https://datasheet.ciiva.com/22715/1577668-22715406.pdf?src-supplier=Element14; ComponentLink6Description: https://datasheet.ciiva.com/22715/1577668-22715406.pdf?src-supplier=Element14; ComponentLink7URL: https://datasheet.ciiva.com/48691/001056076-da-01-en-leis-indukt-sdr0403-2r2ml-2-2uh-2-6a-48691882.pdf?src-supplier=Conrad; ComponentLink7Description: https://datasheet.ciiva.com/48691/001056076-da-01-en-leis-indukt-sdr0403-2r2ml-2-2uh-2-6a-48691882.pdf?src-supplier=Conrad
footprint Inductor_Buck_Footprint
pins: 1, 2

## MOSFET
designator *
MOSFET N-CH 30V 47A 8SON; Manufacturer: Texas Instruments; Manufacturer Part Number: CSD17308Q3T; Max Power Dissipation: 2.7W; Element Configuration: Single; Continuous Drain Current (ID): 44A; Rds On Max: 10.3mR; Input Capacitance: 700pF; Threshold Voltage: 1.3V; Turn-Off Delay Time: 9.9ns; Rise Time: 5.7ns; Fall Time: 2.3ns; Gate to Source Voltage (Vgs): 10V; Drain to Source Resistance: 8.2mR; Turn-On Delay Time: 4.5ns; Number of Elements: 1; Polarity: N-CHANNEL; Supplier 1: Digi-Key; Supplier Part Number 1: 296-44075-6-ND; RoHS: Yes; Category: Integrated Circuits (ICs); Pricing 1: 1=1.06000, 10=0.94800, 100=0.73880 (USD); Mount: Surface Mount; Number of Pins: 8; Min Operating Temperature: -55°C; Max Operating Temperature: 150°C; Packaging: Tape and Reel; Drain to Source Voltage (Vdss): 30V; Lead Free: Contains Lead; REACH SVHC: No SVHC; RoHS Compliant: Yes; ComponentLink1URL: http://www.ti.com/lit/pdf/slvt145?src-supplier=Digi-Key; ComponentLink1Description: http://www.ti.com/lit/pdf/slvt145?src-supplier=Digi-Key; ComponentLink2URL: http://www.ti.com/lit/ds/symlink/csd17308q3.pdf?src-supplier=Digi-Key; ComponentLink2Description: http://www.ti.com/lit/ds/symlink/csd17308q3.pdf?src-supplier=Digi-Key; ComponentLink3URL: http://www.ti.com/lit/gpn/csd17308q3?src-supplier=Mouser; ComponentLink3Description: http://www.ti.com/lit/gpn/csd17308q3?src-supplier=Mouser; ComponentLink4URL: http://www.ti.com/general/docs/lit/getliterature.tsp?genericPartNumber=CSD17308Q3&&fileType=pdf&src-supplier=Element14; ComponentLink4Description: http://www.ti.com/general/docs/lit/getliterature.tsp?genericPartNumber=CSD17308Q3&&fileType=pdf&src-supplier=Element14; Supplier 2: Digi-Key; Supplier Part Number 2: 296-27210-2-ND; Stock 2: 28854; Pricing 2: 2500=0.42525 (USD); Case/Package: SON; Contact Plating: Tin,Matte; Series: NexFET™; Package Quantity: 1; Nominal Vgs: 1.3V; Drain to Source Breakdown Voltage: 30V; Power Dissipation: 2.7W; Length: 3.4mm; Width: 3.4mm; Height: 1.1mm; Radiation Hardening: No; ComponentLink5URL: https://datasheet.ciiva.com/14423/slps262a-14423504.pdf?src-supplier=Avnet; ComponentLink5Description: https://datasheet.ciiva.com/14423/slps262a-14423504.pdf?src-supplier=Avnet; ComponentLink6URL: https://datasheet.ciiva.com/13042/slps262a-123585-13042652.pdf?src-supplier=Mouser; ComponentLink6Description: https://datasheet.ciiva.com/13042/slps262a-123585-13042652.pdf?src-supplier=Mouser; ComponentLink7URL: https://datasheet.ciiva.com/6387/csd17308q3-6387541.pdf?src-supplier=Digi-Key; ComponentLink7Description: https://datasheet.ciiva.com/6387/csd17308q3-6387541.pdf?src-supplier=Digi-Key; ComponentLink8URL: https://datasheet.ciiva.com/7968/1313532-7968246.pdf?src-supplier=Element14; ComponentLink8Description: https://datasheet.ciiva.com/7968/1313532-7968246.pdf?src-supplier=Element14; ComponentLink9URL: https://datasheet.ciiva.com/6387/csd17308q3-6387546.pdf?src-supplier=Digi-Key; ComponentLink9Description: https://datasheet.ciiva.com/6387/csd17308q3-6387546.pdf?src-supplier=Digi-Key; ComponentLink10URL: https://datasheet.ciiva.com/22655/1849858-22655372.pdf?src-supplier=Element14; ComponentLink10Description: https://datasheet.ciiva.com/22655/1849858-22655372.pdf?src-supplier=Element14
footprint MOSFET
pins: 1 S (io), 2 S (io), 3 S (io), 4 G (io), 5-8 D (io)

## MOSFET_2
designator *
25-V, N channel NexFET™ power MOSFET, single SON 5 mm x 6 mm, 5.5 mOhm 8-VSONP -55 to 150; Manufacturer: Texas Instruments; Manufacturer Part Number: CSD16342Q5A; Rds On Max: 4.7mR; Drain to Source Voltage (Vdss): 25V; Continuous Drain Current (ID): 100A; Max Power Dissipation: 3W; Input Capacitance: 1.35nF; Rise Time: 16.6ns; Drain to Source Resistance: 3.8mR; Number of Elements: 1; Gate to Source Voltage (Vgs): 10V; Threshold Voltage: 850mV; Turn-On Delay Time: 5.2ns; Turn-Off Delay Time: 13.4ns; Fall Time: 3.1ns; Polarity: N-CHANNEL; Supplier 1: Digi-Key; Supplier Part Number 1: 296-30314-1-ND; RoHS: Yes; Category: Integrated Circuits (ICs); Stock 1: 6285; Pricing 1: 1=1.22000, 10=1.08700, 100=0.84760, 500=0.70016, 1000=0.58625 (USD); Mount: Surface Mount; Case/Package: SON; Number of Pins: 8; Contact Plating: Tin; Min Operating Temperature: -55°C; Max Operating Temperature: 150°C; Packaging: Tape and Reel; Series: NexFET™; Package Quantity: 1; Power Dissipation: 3W; Element Configuration: Single; Length: 5.8mm; Width: 5mm; Height: 1.1mm; Radiation Hardening: No; REACH SVHC: No SVHC; Lead Free: Contains Lead; RoHS Compliant: Yes; ComponentLink1URL: https://datasheet.ciiva.com/6387/csd16342q5a-6387160.pdf?src-supplier=Digi-Key; ComponentLink1Description: https://datasheet.ciiva.com/6387/csd16342q5a-6387160.pdf?src-supplier=Digi-Key; ComponentLink2URL: https://datasheet.ciiva.com/4444/slps369a-128079-4444253.pdf?src-supplier=Mouser; ComponentLink2Description: https://datasheet.ciiva.com/4444/slps369a-128079-4444253.pdf?src-supplier=Mouser; ComponentLink3URL: https://datasheet.ciiva.com/6387/csd16342q5a-6387162.pdf?src-supplier=Digi-Key; ComponentLink3Description: https://datasheet.ciiva.com/6387/csd16342q5a-6387162.pdf?src-supplier=Digi-Key; ComponentLink4URL: https://datasheet.ciiva.com/6387/csd16342q5a-6387165.pdf?src-supplier=Digi-Key; ComponentLink4Description: https://datasheet.ciiva.com/6387/csd16342q5a-6387165.pdf?src-supplier=Digi-Key; ComponentLink5URL: https://datasheet.ciiva.com/14192/csd16342q5a-14192879.pdf?src-supplier=Avnet; ComponentLink5Description: https://datasheet.ciiva.com/14192/csd16342q5a-14192879.pdf?src-supplier=Avnet
footprint MOSFET_2
pins: 1 S_1, 2 S_2, 3 S_3, 4 G, 5 D_1, 6 D_2, 7 D_3, 8 D_4, 9 D_5

## Resistor 10.2k
designator *
Res General Purpose Thick Film 0603 10.2K Ohm 1% 1/10W ±100ppm/°C Molded SMD Paper T/R; Manufacturer: Yageo; Manufacturer Part Number: RC0603FR-0710K2L; Resistance: 10.2kR; Power Rating: 100mW; Voltage Rating: 75V; Voltage Rating (DC): 50V; Supplier 1: Digi-Key; Supplier Part Number 1: 311-10.2KHRCT-ND; RoHS: Yes; Category: Chip SMD Resistors; Stock 1: 172822; Pricing 1: 1=0.10000, 10=0.02400, 100=0.00970, 1000=0.00436, 2500=0.00378 (USD); Mount: Surface Mount; Case/Package: 0603; Case Code (Metric): 1608; Case Code (Imperial): 0603; Weight: 7.1E-05oz; Size Code: 0603; Min Operating Temperature: -55°C; Max Operating Temperature: 155°C; Package Quantity: 1; Tolerance: 1%; Packaging: Tape and Reel; Resistor Type: Thick Film; Number of Terminations: 2; Termination: SMD/SMT; Temperature Coefficient: 100ppm/°C; Max Power Dissipation: 100mW; Features: Moisture Resistant; Series: RC; Construction: Rectangular; Technology: THICK FILM; Length: 1.6mm; Width: 0.031inch; Height: 0.45mm; Depth: 0.8mm; Military Standard: Not; Lead Free: Lead Free; RoHS Compliant: Yes; ComponentLink1URL: https://datasheet.ciiva.com/11819/0900766b80f96399-11819227.pdf?src-supplier=RSComponents; ComponentLink1Description: https://datasheet.ciiva.com/11819/0900766b80f96399-11819227.pdf?src-supplier=RSComponents; ComponentLink2URL: https://datasheet.ciiva.com/2455/pyu-r-int-thick-7-2455182.pdf?src-supplier=Digi-Key; ComponentLink2Description: https://datasheet.ciiva.com/2455/pyu-r-int-thick-7-2455182.pdf?src-supplier=Digi-Key; ComponentLink3URL: https://datasheet.ciiva.com/2455/pyu-r-int-thick-7-2455183.pdf?src-supplier=Digi-Key; ComponentLink3Description: https://datasheet.ciiva.com/2455/pyu-r-int-thick-7-2455183.pdf?src-supplier=Digi-Key; ComponentLink4URL: https://datasheet.ciiva.com/2455/pyu-r-int-thick-7-2455184.pdf?src-supplier=Digi-Key; ComponentLink4Description: https://datasheet.ciiva.com/2455/pyu-r-int-thick-7-2455184.pdf?src-supplier=Digi-Key
footprint Resistor_10.2k
pins: 1, 2

## Resistor_1k
designator *
Res Thick Film 0603 1K Ohm 1% 0.1W(1/10W) ±100ppm/C Pad SMD Automotive T/R; Manufacturer: TE Connectivity; Manufacturer Part Number: 1-2176092-8; Resistance: 1kR; Tolerance: 0.1%; Power Rating: 250mW; Temperature Coefficient: 25ppm/°C; Voltage Rating: 150V; Number of Resistors: 1; Supplier 1: Digi-Key; Supplier Part Number 1: A110543CT-ND; RoHS: Yes; Category: Chip SMD Resistors; Stock 1: 9833; Pricing 1: 1=0.64000, 10=0.47400, 100=0.27590 (USD); Mount: Surface Mount; Case/Package: 0805; Case Code (Metric): 2012; Case Code (Imperial): 0805; Min Operating Temperature: -55°C; Max Operating Temperature: 155°C; Packaging: Tape and Reel; Resistor Type: Thin Film; Termination: Solder; Package Quantity: 1000; Number of Terminations: 2; Max Power Dissipation: 250mW; Length: 0.079inch; Width: 0.049inch; Height: 0.026inch; RoHS Compliant: Yes; Lead Free: Lead Free; ComponentLink1URL: https://datasheet.ciiva.com/41821/eng-ds-1773272-j-41821837.pdf?src-supplier=Digi-Key; ComponentLink1Description: https://datasheet.ciiva.com/41821/eng-ds-1773272-j-41821837.pdf?src-supplier=Digi-Key; ComponentLink2URL: https://datasheet.ciiva.com/41823/eng-ds-1773272-j-41823324.pdf?src-supplier=Digi-Key; ComponentLink2Description: https://datasheet.ciiva.com/41823/eng-ds-1773272-j-41823324.pdf?src-supplier=Digi-Key; ComponentLink3URL: https://datasheet.ciiva.com/41808/eng-ds-1773272-j-41808533.pdf?src-supplier=Digi-Key; ComponentLink3Description: https://datasheet.ciiva.com/41808/eng-ds-1773272-j-41808533.pdf?src-supplier=Digi-Key; Supplier 2: Digi-Key; Supplier Part Number 2: RMCF0603FT1K00CT-ND; Stock 2: 2; Pricing 2: 1=0.10000, 10=0.01700, 100=0.00680, 1000=0.00305, 2500=0.00264 (USD); Contact Plating: Tin,Matte; Size Code: 0603; Features: Automotive AEC-Q200; Series: RMCF; Construction: Rectangular; Depth: 0.8mm; Radiation Hardening: No; Military Standard: Not; ComponentLink4URL: https://www.seielect.com/catalog/sei-rmcf_rmcp.pdf?src-supplier=Digi-Key; ComponentLink4Description: https://www.seielect.com/catalog/sei-rmcf_rmcp.pdf?src-supplier=Digi-Key; ComponentLink5URL: https://www.seielect.com/catalog/SEI-RMCF_RMCP.pdf?src-supplier=Avnet; ComponentLink5Description: https://www.seielect.com/catalog/SEI-RMCF_RMCP.pdf?src-supplier=Avnet; ComponentLink6URL: https://www.seielect.com/catalog/SEI-Packaging.pdf?src-supplier=Avnet; ComponentLink6Description: https://www.seielect.com/catalog/SEI-Packaging.pdf?src-supplier=Avnet; ComponentLink7URL: https://www.seielect.com/catalog/SEI-Packaging.pdf?src-supplier=Arrow+Electronics; ComponentLink7Description: https://www.seielect.com/catalog/SEI-Packaging.pdf?src-supplier=Arrow+Electronics; ComponentLink8URL: https://www.seielect.com/catalog/SEI-RMCF_RMCP.pdf?src-supplier=Avnet+Asia; ComponentLink8Description: https://www.seielect.com/catalog/SEI-RMCF_RMCP.pdf?src-supplier=Avnet+Asia; ComponentLink9URL: http://www.seielect.com/Catalog/SEI-rmc.pdf?src-supplier=Future+Electronics; ComponentLink9Description: http://www.seielect.com/Catalog/SEI-rmc.pdf?src-supplier=Future+Electronics; ComponentLink10URL: https://www.seielect.com/catalog/SEI-Packaging.pdf?src-supplier=Verical; ComponentLink10Description: https://www.seielect.com/catalog/SEI-Packaging.pdf?src-supplier=Verical; ComponentLink11URL: https://www.seielect.com/catalog/SEI-Packaging.pdf?src-supplier=Quest; ComponentLink11Description: https://www.seielect.com/catalog/SEI-Packaging.pdf?src-supplier=Quest
footprint Resistor_1k
pins: 1, 2

## Resistor_2.2k
designator *
Res Thick Film 0805 2.2K Ohm 5% 1/3W ±100ppm/°C Molded SMD SMD T/R; Manufacturer: TE Connectivity Holsworthy; Manufacturer Part Number: CRGH0805J2K2; Resistance: 2.2kR; Power Rating: 330mW; Voltage Rating: 150V; Number of Resistors: 1; Supplier 1: Digi-Key; Supplier Part Number 1: A126438CT-ND; RoHS: Yes; Category: Chip SMD Resistors; Stock 1: 10746; Pricing 1: 1=0.10000, 10=0.07200, 100=0.02930, 1000=0.01317, 2500=0.01143 (USD); Mount: Surface Mount; Case/Package: 0805; Case Code (Imperial): 0805; Case Code (Metric): 2012; Min Operating Temperature: -55°C; Max Operating Temperature: 125°C; Tolerance: 5%; Packaging: Tape and Reel; Resistor Type: Thick Film,Power resistor; Temperature Coefficient: 100ppm/°C; Number of Terminations: 2; Series: CRGH; Termination: Solder; Voltage Rating (DC): 150V; Resistance Tolerance: 5%; Technology: THICK FILM; Length: 2mm; Width: 1.25mm; Height: 0.55mm; Depth: 1.25mm; RoHS Compliant: Yes; REACH SVHC: No SVHC; ELV: Compliant; ComponentLink1URL: https://datasheet.ciiva.com/12564/ng-ds-1773204-g-213532-12564996.pdf?src-supplier=Mouser; ComponentLink1Description: https://datasheet.ciiva.com/12564/ng-ds-1773204-g-213532-12564996.pdf?src-supplier=Mouser; ComponentLink2URL: https://datasheet.ciiva.com/22670/1755795-22670438.pdf?src-supplier=Element14; ComponentLink2Description: https://datasheet.ciiva.com/22670/1755795-22670438.pdf?src-supplier=Element14
footprint Resistor_2.2k
pins: 1, 2

## Resistor_3.74k
designator *
Res Thick Film 0603 3.74K Ohm 1% 1/10W ±100ppm/°C Molded SMD Paper T/R; Manufacturer: Yageo; Manufacturer Part Number: RC0603FR-073K74L; Resistance: 3.74kR; Power Rating: 100mW; Voltage Rating: 50V; Working Voltage: 75V; Supplier 1: Digi-Key; Supplier Part Number 1: 311-3.74KHRCT-ND; RoHS: Yes; Category: Chip SMD Resistors; Stock 1: 31077; Pricing 1: 1=0.10000, 10=0.02400, 100=0.00970, 1000=0.00436, 2500=0.00378 (USD); Case/Package: 0603; Contact Plating: Tin,Matte; Case Code (Imperial): 0603; Case Code (Metric): 1608; Min Operating Temperature: -55°C; Max Operating Temperature: 155°C; Tolerance: 1%; Temperature Coefficient: 100ppm/°C; Resistor Type: Thick Film; Packaging: Tape and Reel; Termination: SMD/SMT; Voltage Rating (DC): 50V; Number of Terminations: 2; Features: Moisture Resistant; Series: RC; Max Power Dissipation: 100mW; Construction: Rectangular; Technology: METAL OXIDE FILM; Length: 1.6mm; Depth: 0.8mm; Military Standard: Not; Lead Free: Lead Free; RoHS Compliant: Yes; ComponentLink1URL: https://datasheet.ciiva.com/8893/pyu-rc0603-51-rohs-l-4-8893463.pdf?src-supplier=Avnet; ComponentLink1Description: https://datasheet.ciiva.com/8893/pyu-rc0603-51-rohs-l-4-8893463.pdf?src-supplier=Avnet
footprint Resistor_3.74k
pins: 1, 2

## Resistor_4.99k
designator *
Res General Purpose Thick Film 0603 4.99k Ohm 1% 1/10W ±100ppm/°C Molded Paper T/R; Manufacturer: Yageo; Manufacturer Part Number: RC0603FR-074K99L; Resistance: 4.99kR; Voltage Rating: 75V; Power Rating: 100mW; Voltage Rating (DC): 50V; Supplier 1: Digi-Key; Supplier Part Number 1: 311-4.99KHRCT-ND; RoHS: Yes; Category: Chip SMD Resistors; Stock 1: 343463; Pricing 1: 1=0.10000, 10=0.02400, 100=0.00970, 1000=0.00436, 2500=0.00378 (USD); Case/Package: 0603; Number of Pins: 2; Case Code (Imperial): 0603; Case Code (Metric): 1608; Weight: 7.1E-05oz; Size Code: 0603; Min Operating Temperature: -55°C; Max Operating Temperature: 155°C; Tolerance: 1%; Resistor Type: Thick Film; Temperature Coefficient: 100ppm/°C; Packaging: Tape and Reel; Package Quantity: 1; Termination: SMD/SMT; Number of Terminations: 2; Max Power Dissipation: 100mW; Features: Moisture Resistant; Series: RC; Construction: Rectangular; Resistance Tolerance: 1%; Length: 1.6mm; Width: 0.8mm; Height: 0.022inch; Depth: 0.8mm; REACH SVHC: Unknown; Military Standard: Not; Lead Free: Lead Free; RoHS Compliant: Yes; ComponentLink1URL: https://datasheet.ciiva.com/2453/pyu-r-int-thick-7-2453979.pdf?src-supplier=Digi-Key; ComponentLink1Description: https://datasheet.ciiva.com/2453/pyu-r-int-thick-7-2453979.pdf?src-supplier=Digi-Key; ComponentLink2URL: https://datasheet.ciiva.com/2453/pyu-r-int-thick-7-2453980.pdf?src-supplier=Digi-Key; ComponentLink2Description: https://datasheet.ciiva.com/2453/pyu-r-int-thick-7-2453980.pdf?src-supplier=Digi-Key; ComponentLink3URL: https://datasheet.ciiva.com/2453/pyu-r-int-thick-7-2453981.pdf?src-supplier=Digi-Key; ComponentLink3Description: https://datasheet.ciiva.com/2453/pyu-r-int-thick-7-2453981.pdf?src-supplier=Digi-Key; ComponentLink4URL: https://datasheet.ciiva.com/7983/443971-7983646.pdf?src-supplier=Element14; ComponentLink4Description: https://datasheet.ciiva.com/7983/443971-7983646.pdf?src-supplier=Element14; ComponentLink5URL: https://datasheet.ciiva.com/22747/443971-22747529.pdf?src-supplier=Element14; ComponentLink5Description: https://datasheet.ciiva.com/22747/443971-22747529.pdf?src-supplier=Element14
footprint Resistor_4.99k
pins: 1 R1, 2 R2